# Altium integrated library Silicon Labs Wireless.IntLib: 71 symbols (part 2 of 7)
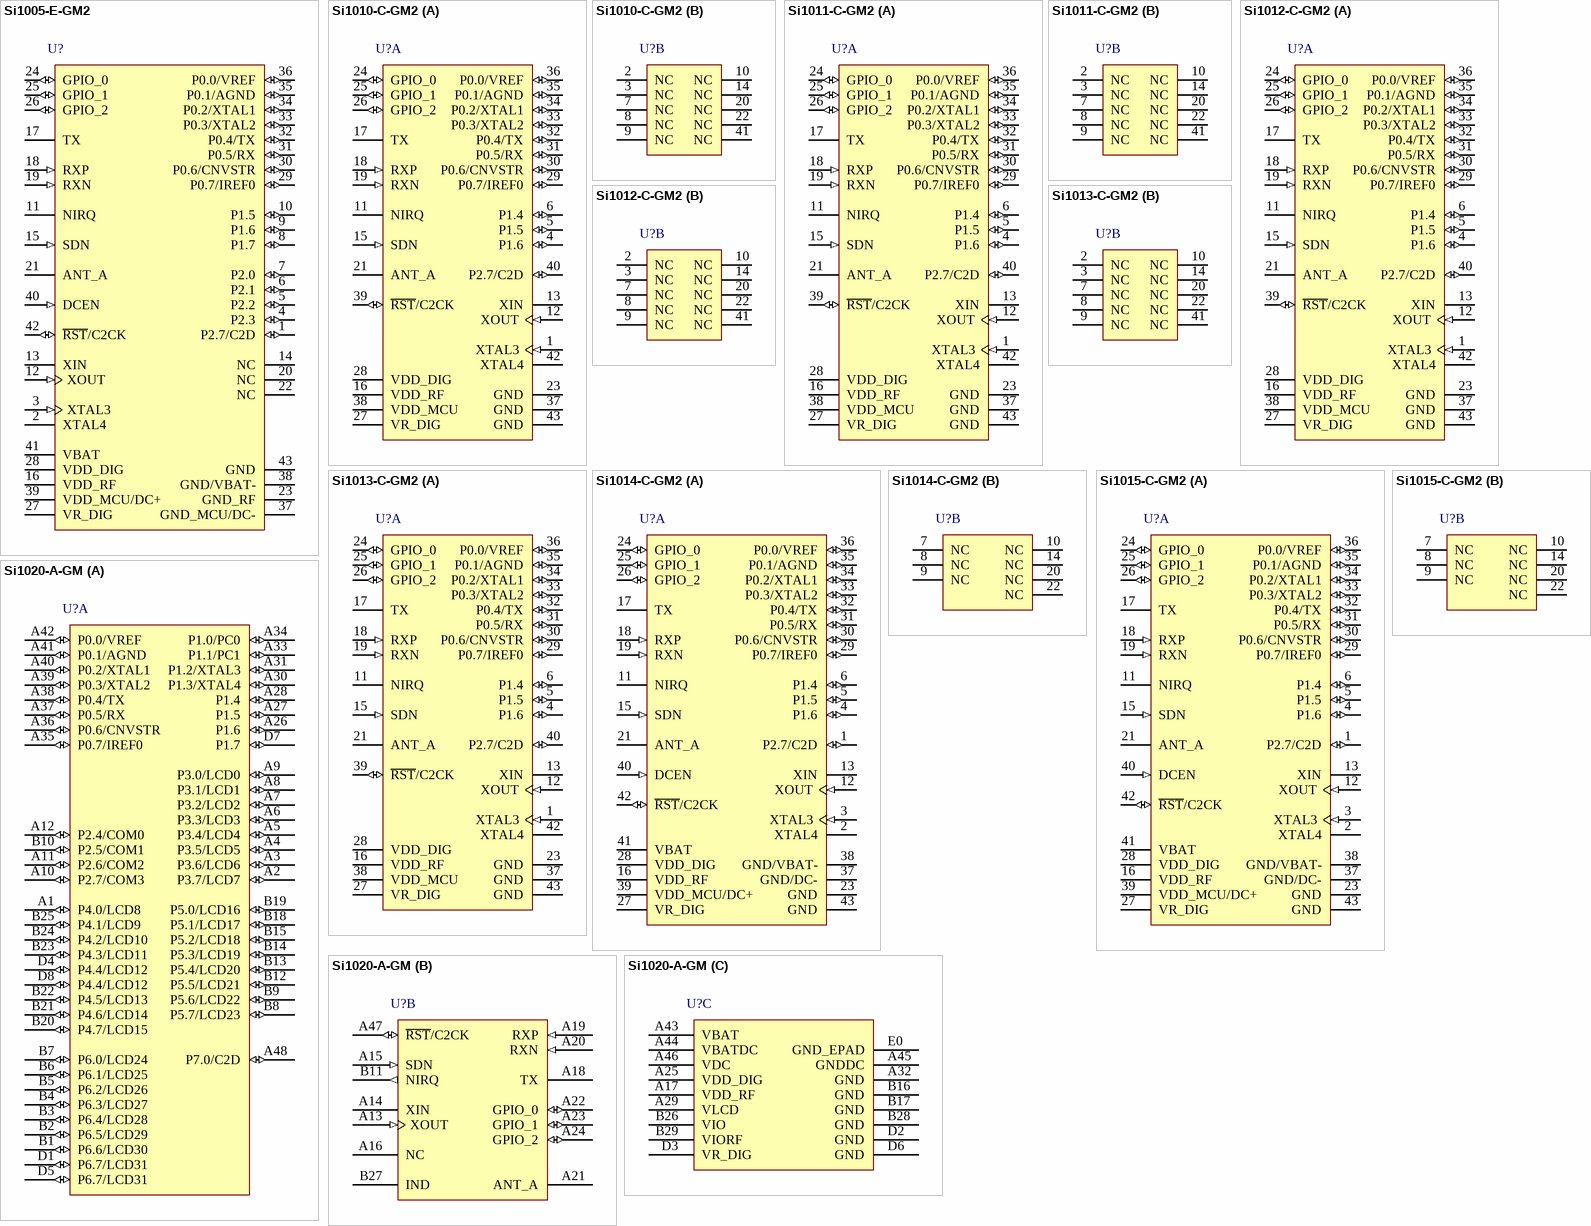
[diagram p7: symbols Si1005-E-GM2 to Si1020-A-GM]

## Si1005-E-GM2
designator U?
Ultra Low Power, 10-Bit ADC MCU with Integrated 240 to 960 MHz EZRadioPRO(R) Transceiver, 32 kB Flash, 4 Timers (16-Bit), -40 to 85 degC, 42-pin LGA, Tube; Manufacturer: Silicon Labs; PartNumber: Si1005-E-GM2; Comparators: 2; Dig I/O Pins: 19; Flash: 32 kB; FSK/GFSK Data Rate: 256 kbps; Internal Osc. Accuracy: +/-2%; OOK Data Rate: 40 kbps; Output Power: -8 to 13 dBm; PCA Channels: 6; RX Current: 18.5 mA; Temp Sensor: TRUE; Timers (16-bit): 4; Sub-Family: Wireless MCUs; DatasheetVersion: Rev. 1.3; PackageReference: LGA-42; PackageDescription: 42-Pin Land Grid Array, Body 5 x 7 mm, Pitch 0.5 mm; Supplier 1: Digi-Key; Supplier Part Number 1: 336-2462-5-ND; Supplier 2: Mouser; Supplier Part Number 2: 634-SI1005-E-GM2; Frequency Range: 240 to 960 MHz; Packing: Tube; Mounting Technology: Surface Mount; Code_IPC: J-STD-020C; ComponentLink1Description: Manufacturer URL; ComponentLink1URL: http://www.silabs.com/; ComponentLink2Description: Datasheet; ComponentLink2URL: http://www.silabs.com/Support Documents/TechnicalDocs/Si1000.pdf; ComponentLink3Description: Package Specification; ComponentLink3URL: http://www.silabs.com/Support%20Documents/TechnicalDocs/Si1000.pdf
footprint SLAB-LGA-42_V (LGA, 42-Leads, Body 7x5mm, Pitch 0.5mm, Thermal Pad 3.15x5.4mm)
pins: 1 P2.7/C2D (io), 2 XTAL4 "SmaRTClock Oscillator Crystal Output. See Section 20 for a complete description.", 3 XTAL3 (in) "SmaRTClock Oscillator Crystal Input. See Section 20 for a complete description.", 4 P2.3 (io) "Port 2.3. See Port I/O section for a complete description.", 5 P2.2 (io) "Port 2.2. See Port I/O section for a complete description.", 6 P2.1 (io) "Port 2.1. See Port I/O section for a complete description.", 7 P2.0 (io) "Port 2.0. See Port I/O section for a complete description.", 8 P1.7 (io) "Port 1.6. See Port I/O section for a complete description.", 9 P1.6 (io) "Port 1.7. See Port I/O section for a complete description.", 10 P1.5 (io) "Port 1.5. See Port I/O section for a complete description.", 11 NIRQ (oc) "EZRadioPRO peripheral interrupt status pin. Will be set low to indicate a pending EZRadioPRO interrupt event. See the EZRadioPRO Control Logic Registers for more details. This pin is an open-drain output with a 220 kohm (See Datasheet)", 12 XOUT (in) "EZRadioPRO peripheral crystal oscillator output. Connect to an external 30 MHz crystal or to an external clock source. If using an external clock source with no crystal, dc coupling with a nominal 0.8 VDC level is (See Datasheet)", 13 XIN "EZRadioPRO peripheral crystal oscillator input. Connect to an external 30 MHz crystal or leave floating if driving the XOUT pin with an external signal source.", 14 NC "No Connect. May be left floating or tied to power or ground.", 15 SDN (in) "EZRadioPRO peripheral shutdown pin. When driven to logic HIGH, the EZRadioPRO peripheral will be completely shut down and the contents of the EZRadioPRO registers will be lost. This pin should be driven to logic LOW during (See Datasheet)", 16 VDD_RF (power) "Power Supply Voltage for the analog portion of the   EZRadioPRO peripheral. Must be 1.8 to 3.6 V.", 17 TX (oc) "EZRadioPRO peripheral transmit RF output pin. The PA output is an open-drain connection so the L-C match must supply (1.8 to 3.6 VDC) to this pin.", 18 RXP (in) "EZRadioPRO peripheral differential RF input pins of the LNA. See application schematic for example matching network.", 19 RXN (in) "EZRadioPRO peripheral differential RF input pins of the LNA. See application schematic for example matching network.", 20 NC "No Connect. May be left floating or tied to power or ground.", 21 ANT_A "EZRadioPRO peripheral TR switch control signal.", 22 NC "No Connect. May be left floating or tied to power or ground.", 23 GND_RF (power) "Required Ground for the digital and analog portions of the EZRadioPRO peripheral.", 24 GPIO_0 (io) "General Purpose I/O controlled by the EZRadioPRO peripheral. May be configured through the EZRadioPRO registers to perform various functions including: Clock Output, FIFO status, POR, Wake-Up Timer, Low Battery Detect, TRSW, (See Datasheet)", 25 GPIO_1 (io) "General Purpose I/O controlled by the EZRadioPRO peripheral. May be configured through the EZRadioPRO registers to perform various functions including: Clock Output, FIFO status, POR, Wake-Up Timer, Low Battery Detect, TRSW, (See Datasheet)", 26 GPIO_2 (io) "General Purpose I/O controlled by the EZRadioPRO peripheral. May be configured through the EZRadioPRO registers to perform various functions including: Clock Output, FIFO status, POR, Wake-Up Timer, Low Battery Detect, TRSW, (See Datasheet)", 27 VR_DIG (power) "Regulated Output Voltage of the digital 1.7 V regulator for the EZRadioPRO peripheral. A 1 uF decoupling capacitor is required.", 28 VDD_DIG (power) "Power Supply Voltage for the digital portion of the   EZRadioPRO peripheral. Must be 1.8 to 3.6 V.", 29 P0.7/IREF0 (io), 30 P0.6/CNVSTR (io), 31 P0.5/RX (io), 32 P0.4/TX (io), 33 P0.3/XTAL2 (io), 34 P0.2/XTAL1 (io), 35 P0.1/AGND (io), 36 P0.0/VREF (io), 37 GND_MCU/DC- (power), 38 GND/VBAT- (power), 39 VDD_MCU/DC+ (power), 40 DCEN (in) "DC-DC Enable Pin. In single-cell battery mode, this pin must be connected to VBAT through a 0.68 uH inductor. In dual-cell battery mode, this pin must be connected directly to ground.", 41 VBAT (power) "Battery Supply Voltage. Must be 0.9 to 1.8 V in single-cell battery mode and 1.8 to 3.6 V in dual-cell battery mode.", 42 ~{RST}/C2CK (io), 43 GND (power)

## Si1010-C-GM2
designator U?
Ultra Low Power, 12 / 10-Bit ADC MCU with Integrated 240 to 960 MHz EZRadioPRO(R) Transceiver, 16 kB Flash, 4 Timers (16-Bit), -40 to 85 degC, 42-pin LGA, Tube; Manufacturer: Silicon Labs; PartNumber: Si1010-C-GM2; Comparators: 2; Dig I/O Pins: 15; Flash: 16 kB; FSK/GFSK Data Rate: 256 kbps; Internal Osc. Accuracy: +/-2%; OOK Data Rate: 40 kbps; Output Power: 1 to 20 dBm; PCA Channels: 6; RX Current: 18.5 mA; Temp Sensor: TRUE; Timers (16-bit): 4; Sub-Family: Wireless MCUs; DatasheetVersion: Rev. 1.2; PackageReference: LGA-42; PackageDescription: 42-Pin Land Grid Array, Body 5 x 7 mm, Pitch 0.5 mm; Supplier 1: Digi-Key; Supplier Part Number 1: 336-2460-5-ND; Supplier 2: Mouser; Supplier Part Number 2: 634-SI1010-C-GM2; Frequency Range: 240 to 960 MHz; Packing: Tube; Mounting Technology: Surface Mount; Code_IPC: J-STD-020C; ComponentLink1Description: Manufacturer URL; ComponentLink1URL: http://www.silabs.com/; ComponentLink2Description: Datasheet; ComponentLink2URL: http://www.silabs.com/Support Documents/TechnicalDocs/Si1010.pdf; ComponentLink3Description: Package Specification; ComponentLink3URL: http://www.silabs.com/Support%20Documents/TechnicalDocs/Si1000.pdf
footprint SLAB-LGA-42_V (LGA, 42-Leads, Body 7x5mm, Pitch 0.5mm, Thermal Pad 3.15x5.4mm)
part A pins: 1 XTAL3 (in) "SmaRTClock Oscillator Crystal Input.", 4 P1.6 (io) "Port 1.6. See Port I/O section for a complete description.", 5 P1.5 (io) "Port 1.5. See Port I/O section for a complete description.", 6 P1.4 (io) "Port 1.4. See Port I/O section for a complete description.", 11 NIRQ (oc) "EZRadioPRO peripheral interrupt status pin. Will be set low to indicate a pending EZRadioPRO interrupt event. See the EZRadioPRO Control Logic Registers for more details. This pin is an open-drain output with a 220 k? (See Datasheet)", 12 XOUT (in) "EZRadioPRO peripheral crystal oscillator output. Connect to an external 30 MHz crystal or to an external clock source. If using an external clock source with no crystal, dc coupling with a nominal 0.8 VDC level is (See Datasheet)", 13 XIN "EZRadioPRO peripheral crystal oscillator input. Connect to an external 30 MHz crystal or leave floating if driving the XOUT pin with an external signal source.", 15 SDN (in) "EZRadioPRO peripheral shutdown pin. When driven to logic HIGH, the EZRadioPRO peripheral will be completely shut down and the contents of the EZRadioPRO registers will be lost. This pin should be driven to logic LOW during (See Datasheet)", 16 VDD_RF (power) "Power Supply Voltage for the analog portion of the EZRadioPRO peripheral. Must be 1.8 to 3.6 V.", 17 TX (oc) "EZRadioPRO peripheral transmit RF output pin. The PA output is an open-drain connection so the L-C match must supply (1.8 to 3.6 VDC) to this pin.", 18 RXP (in) "EZRadioPRO peripheral differential RF input pins of the LNA. See application schematic for example matching network.", 19 RXN (in) "EZRadioPRO peripheral differential RF input pins of the LNA. See application schematic for example matching network.", 21 ANT_A "EZRadioPRO antenna diversity GPIO Ant1 signal direct digital output. Refer to the description of GPIO Ant1 in the Function and Control 2 register. A complete description may be found in “AN440: EZRadioPRO Detaile(See Datasheet)", 23 GND (power) "Required Ground for the digital and analog portions of the EZRadioPRO peripheral.", 24 GPIO_0 (io) "General Purpose I/O controlled by the EZRadioPRO peripheral. May be configured through the EZRadioPRO registers to perform various functions including: Clock Output, FIFO status, POR, Wake-Up Timer, Low Battery Detect, TRSW, (See Datasheet)", 25 GPIO_1 (io) "General Purpose I/O controlled by the EZRadioPRO peripheral. May be configured through the EZRadioPRO registers to perform various functions including: Clock Output, FIFO status, POR, Wake-Up Timer, Low Battery Detect, TRSW, (See Datasheet)", 26 GPIO_2 (io) "General Purpose I/O controlled by the EZRadioPRO peripheral. May be configured through the EZRadioPRO registers to perform various functions including: Clock Output, FIFO status, POR, Wake-Up Timer, Low Battery Detect, TRSW, (See Datasheet)", 27 VR_DIG (power) "Regulated Output Voltage of the digital 1.7 V regulator for the EZRadioPRO peripheral. A 1 uF decoupling capacitor is required.", 28 VDD_DIG (power) "Power Supply Voltage for the digital portion of the EZRadioPRO peripheral. Must be 1.8 to 3.6 V.", 29 P0.7/IREF0 (io), 30 P0.6/CNVSTR (io), 31 P0.5/RX (io), 32 P0.4/TX (io), 33 P0.3/XTAL2 (io), 34 P0.2/XTAL1 (io), 35 P0.1/AGND (io), 36 P0.0/VREF (io), 37 GND (power) "Required Ground for the entire MCU except for the EZRadioPRO peripheral.", 38 VDD_MCU (power) "Power Supply Voltage for the entire MCU except for the EZRadioPRO peripheral. Must be 1.8 to 3.6 V.", 39 ~{RST}/C2CK (io), 40 P2.7/C2D (io), 42 XTAL4 "SmaRTClock Oscillator Crystal Output.", 43 GND (power) "Required Ground for the entire MCU except for the EZRadioPRO peripheral."
part B pins: 2 NC "No Connect. May be left floating or tied to power or ground.", 3 NC "No Connect. May be left floating or tied to power or ground.", 7 NC "No Connect. May be left floating or tied to power or ground.", 8 NC "No Connect. May be left floating or tied to power or ground.", 9 NC "No Connect. May be left floating or tied to power or ground.", 10 NC "No Connect. May be left floating or tied to power or ground.", 14 NC "No Connect. May be left floating or tied to power or ground.", 20 NC "No Connect. May be left floating or tied to power or ground.", 22 NC "No Connect. May be left floating or tied to power or ground.", 41 NC "No Connect. May be left floating or tied to power or ground."

## Si1011-C-GM2
designator U?
Ultra Low Power, 12 / 10-Bit ADC MCU with Integrated 240 to 960 MHz EZRadioPRO(R) Transceiver, 8 kB Flash, 4 Timers (16-Bit), -40 to 85 degC, 42-pin LGA, Tube; Manufacturer: Silicon Labs; PartNumber: Si1011-C-GM2; Comparators: 2; Dig I/O Pins: 15; Flash: 8 kB; FSK/GFSK Data Rate: 256 kbps; Internal Osc. Accuracy: +/-2%; OOK Data Rate: 40 kbps; Output Power: 1 to 20 dBm; PCA Channels: 6; RX Current: 18.5 mA; Temp Sensor: TRUE; Timers (16-bit): 4; Sub-Family: Wireless MCUs; DatasheetVersion: Rev. 1.2; PackageReference: LGA-42; PackageDescription: 42-Pin Land Grid Array, Body 5 x 7 mm, Pitch 0.5 mm; Supplier 1: Digi-Key; Supplier Part Number 1: 336-2459-5-ND; Supplier 2: Mouser; Supplier Part Number 2: 634-SI1011-C-GM2; Frequency Range: 240 to 960 MHz; Packing: Tube; Mounting Technology: Surface Mount; Code_IPC: J-STD-020C; ComponentLink1Description: Manufacturer URL; ComponentLink1URL: http://www.silabs.com/; ComponentLink2Description: Datasheet; ComponentLink2URL: http://www.silabs.com/Support Documents/TechnicalDocs/Si1010.pdf; ComponentLink3Description: Package Specification; ComponentLink3URL: http://www.silabs.com/Support%20Documents/TechnicalDocs/Si1000.pdf
footprint SLAB-LGA-42_V (LGA, 42-Leads, Body 7x5mm, Pitch 0.5mm, Thermal Pad 3.15x5.4mm)
part A pins: 1 XTAL3 (in) "SmaRTClock Oscillator Crystal Input.", 4 P1.6 (io) "Port 1.6. See Port I/O section for a complete description.", 5 P1.5 (io) "Port 1.5. See Port I/O section for a complete description.", 6 P1.4 (io) "Port 1.4. See Port I/O section for a complete description.", 11 NIRQ (oc) "EZRadioPRO peripheral interrupt status pin. Will be set low to indicate a pending EZRadioPRO interrupt event. See the EZRadioPRO Control Logic Registers for more details. This pin is an open-drain output with a 220 k? (See Datasheet)", 12 XOUT (in) "EZRadioPRO peripheral crystal oscillator output. Connect to an external 30 MHz crystal or to an external clock source. If using an external clock source with no crystal, dc coupling with a nominal 0.8 VDC level is (See Datasheet)", 13 XIN "EZRadioPRO peripheral crystal oscillator input. Connect to an external 30 MHz crystal or leave floating if driving the XOUT pin with an external signal source.", 15 SDN (in) "EZRadioPRO peripheral shutdown pin. When driven to logic HIGH, the EZRadioPRO peripheral will be completely shut down and the contents of the EZRadioPRO registers will be lost. This pin should be driven to logic LOW during (See Datasheet)", 16 VDD_RF (power) "Power Supply Voltage for the analog portion of the EZRadioPRO peripheral. Must be 1.8 to 3.6 V.", 17 TX (oc) "EZRadioPRO peripheral transmit RF output pin. The PA output is an open-drain connection so the L-C match must supply (1.8 to 3.6 VDC) to this pin.", 18 RXP (in) "EZRadioPRO peripheral differential RF input pins of the LNA. See application schematic for example matching network.", 19 RXN (in) "EZRadioPRO peripheral differential RF input pins of the LNA. See application schematic for example matching network.", 21 ANT_A "EZRadioPRO antenna diversity GPIO Ant1 signal direct digital output. Refer to the description of GPIO Ant1 in the Function and Control 2 register. A complete description may be found in “AN440: EZRadioPRO Detaile(See Datasheet)", 23 GND (power) "Required Ground for the digital and analog portions of the EZRadioPRO peripheral.", 24 GPIO_0 (io) "General Purpose I/O controlled by the EZRadioPRO peripheral. May be configured through the EZRadioPRO registers to perform various functions including: Clock Output, FIFO status, POR, Wake-Up Timer, Low Battery Detect, TRSW, (See Datasheet)", 25 GPIO_1 (io) "General Purpose I/O controlled by the EZRadioPRO peripheral. May be configured through the EZRadioPRO registers to perform various functions including: Clock Output, FIFO status, POR, Wake-Up Timer, Low Battery Detect, TRSW, (See Datasheet)", 26 GPIO_2 (io) "General Purpose I/O controlled by the EZRadioPRO peripheral. May be configured through the EZRadioPRO registers to perform various functions including: Clock Output, FIFO status, POR, Wake-Up Timer, Low Battery Detect, TRSW, (See Datasheet)", 27 VR_DIG (power) "Regulated Output Voltage of the digital 1.7 V regulator for the EZRadioPRO peripheral. A 1 uF decoupling capacitor is required.", 28 VDD_DIG (power) "Power Supply Voltage for the digital portion of the EZRadioPRO peripheral. Must be 1.8 to 3.6 V.", 29 P0.7/IREF0 (io), 30 P0.6/CNVSTR (io), 31 P0.5/RX (io), 32 P0.4/TX (io), 33 P0.3/XTAL2 (io), 34 P0.2/XTAL1 (io), 35 P0.1/AGND (io), 36 P0.0/VREF (io), 37 GND (power) "Required Ground for the entire MCU except for the EZRadioPRO peripheral.", 38 VDD_MCU (power) "Power Supply Voltage for the entire MCU except for the EZRadioPRO peripheral. Must be 1.8 to 3.6 V.", 39 ~{RST}/C2CK (io), 40 P2.7/C2D (io), 42 XTAL4 "SmaRTClock Oscillator Crystal Output.", 43 GND (power) "Required Ground for the entire MCU except for the EZRadioPRO peripheral."
part B pins: 2 NC "No Connect. May be left floating or tied to power or ground.", 3 NC "No Connect. May be left floating or tied to power or ground.", 7 NC "No Connect. May be left floating or tied to power or ground.", 8 NC "No Connect. May be left floating or tied to power or ground.", 9 NC "No Connect. May be left floating or tied to power or ground.", 10 NC "No Connect. May be left floating or tied to power or ground.", 14 NC "No Connect. May be left floating or tied to power or ground.", 20 NC "No Connect. May be left floating or tied to power or ground.", 22 NC "No Connect. May be left floating or tied to power or ground.", 41 NC "No Connect. May be left floating or tied to power or ground."

## Si1012-C-GM2
designator U?
Ultra Low Power, 12 / 10-Bit ADC MCU with Integrated 240 to 960 MHz EZRadioPRO(R) Transceiver, 16 kB Flash, 4 Timers (16-Bit), -40 to 85 degC, 42-pin LGA, Tube; Manufacturer: Silicon Labs; PartNumber: Si1012-C-GM2; Comparators: 2; Dig I/O Pins: 15; Flash: 16 kB; FSK/GFSK Data Rate: 256 kbps; Internal Osc. Accuracy: +/-2%; OOK Data Rate: 40 kbps; Output Power: -4 to 13 dBm; PCA Channels: 6; RX Current: 18.5 mA; Temp Sensor: TRUE; Timers (16-bit): 4; Sub-Family: Wireless MCUs; DatasheetVersion: Rev. 1.2; PackageReference: LGA-42; PackageDescription: 42-Pin Land Grid Array, Body 5 x 7 mm, Pitch 0.5 mm; Supplier 1: Digi-Key; Supplier Part Number 1: 336-2458-5-ND; Supplier 2: Mouser; Supplier Part Number 2: 634-SI1012-C-GM2; Frequency Range: 240 to 960 MHz; Packing: Tube; Mounting Technology: Surface Mount; Code_IPC: J-STD-020C; ComponentLink1Description: Manufacturer URL; ComponentLink1URL: http://www.silabs.com/; ComponentLink2Description: Datasheet; ComponentLink2URL: http://www.silabs.com/Support Documents/TechnicalDocs/Si1010.pdf; ComponentLink3Description: Package Specification; ComponentLink3URL: http://www.silabs.com/Support%20Documents/TechnicalDocs/Si1000.pdf
footprint SLAB-LGA-42_V (LGA, 42-Leads, Body 7x5mm, Pitch 0.5mm, Thermal Pad 3.15x5.4mm)
part A pins: 1 XTAL3 (in) "SmaRTClock Oscillator Crystal Input.", 4 P1.6 (io) "Port 1.6. See Port I/O section for a complete description.", 5 P1.5 (io) "Port 1.5. See Port I/O section for a complete description.", 6 P1.4 (io) "Port 1.4. See Port I/O section for a complete description.", 11 NIRQ (oc) "EZRadioPRO peripheral interrupt status pin. Will be set low to indicate a pending EZRadioPRO interrupt event. See the EZRadioPRO Control Logic Registers for more details. This pin is an open-drain output with a 220 k? (See Datasheet)", 12 XOUT (in) "EZRadioPRO peripheral crystal oscillator output. Connect to an external 30 MHz crystal or to an external clock source. If using an external clock source with no crystal, dc coupling with a nominal 0.8 VDC level is (See Datasheet)", 13 XIN "EZRadioPRO peripheral crystal oscillator input. Connect to an external 30 MHz crystal or leave floating if driving the XOUT pin with an external signal source.", 15 SDN (in) "EZRadioPRO peripheral shutdown pin. When driven to logic HIGH, the EZRadioPRO peripheral will be completely shut down and the contents of the EZRadioPRO registers will be lost. This pin should be driven to logic LOW during (See Datasheet)", 16 VDD_RF (power) "Power Supply Voltage for the analog portion of the EZRadioPRO peripheral. Must be 1.8 to 3.6 V.", 17 TX (oc) "EZRadioPRO peripheral transmit RF output pin. The PA output is an open-drain connection so the L-C match must supply (1.8 to 3.6 VDC) to this pin.", 18 RXP (in) "EZRadioPRO peripheral differential RF input pins of the LNA. See application schematic for example matching network.", 19 RXN (in) "EZRadioPRO peripheral differential RF input pins of the LNA. See application schematic for example matching network.", 21 ANT_A "EZRadioPRO antenna diversity GPIO Ant1 signal direct digital output. Refer to the description of GPIO Ant1 in the Function and Control 2 register. A complete description may be found in “AN440: EZRadioPRO Detaile(See Datasheet)", 23 GND (power) "Required Ground for the digital and analog portions of the EZRadioPRO peripheral.", 24 GPIO_0 (io) "General Purpose I/O controlled by the EZRadioPRO peripheral. May be configured through the EZRadioPRO registers to perform various functions including: Clock Output, FIFO status, POR, Wake-Up Timer, Low Battery Detect, TRSW, (See Datasheet)", 25 GPIO_1 (io) "General Purpose I/O controlled by the EZRadioPRO peripheral. May be configured through the EZRadioPRO registers to perform various functions including: Clock Output, FIFO status, POR, Wake-Up Timer, Low Battery Detect, TRSW, (See Datasheet)", 26 GPIO_2 (io) "General Purpose I/O controlled by the EZRadioPRO peripheral. May be configured through the EZRadioPRO registers to perform various functions including: Clock Output, FIFO status, POR, Wake-Up Timer, Low Battery Detect, TRSW, (See Datasheet)", 27 VR_DIG (power) "Regulated Output Voltage of the digital 1.7 V regulator for the EZRadioPRO peripheral. A 1 uF decoupling capacitor is required.", 28 VDD_DIG (power) "Power Supply Voltage for the digital portion of the EZRadioPRO peripheral. Must be 1.8 to 3.6 V.", 29 P0.7/IREF0 (io), 30 P0.6/CNVSTR (io), 31 P0.5/RX (io), 32 P0.4/TX (io), 33 P0.3/XTAL2 (io), 34 P0.2/XTAL1 (io), 35 P0.1/AGND (io), 36 P0.0/VREF (io), 37 GND (power) "Required Ground for the entire MCU except for the EZRadioPRO peripheral.", 38 VDD_MCU (power) "Power Supply Voltage for the entire MCU except for the EZRadioPRO peripheral. Must be 1.8 to 3.6 V.", 39 ~{RST}/C2CK (io), 40 P2.7/C2D (io), 42 XTAL4 "SmaRTClock Oscillator Crystal Output.", 43 GND (power) "Required Ground for the entire MCU except for the EZRadioPRO peripheral."
part B pins: 2 NC "No Connect. May be left floating or tied to power or ground.", 3 NC "No Connect. May be left floating or tied to power or ground.", 7 NC "No Connect. May be left floating or tied to power or ground.", 8 NC "No Connect. May be left floating or tied to power or ground.", 9 NC "No Connect. May be left floating or tied to power or ground.", 10 NC "No Connect. May be left floating or tied to power or ground.", 14 NC "No Connect. May be left floating or tied to power or ground.", 20 NC "No Connect. May be left floating or tied to power or ground.", 22 NC "No Connect. May be left floating or tied to power or ground.", 41 NC "No Connect. May be left floating or tied to power or ground."

## Si1013-C-GM2
designator U?
Ultra Low Power, 12 / 10-Bit ADC MCU with Integrated 240 to 960 MHz EZRadioPRO(R) Transceiver, 8 kB Flash, 4 Timers (16-Bit), -40 to 85 degC, 42-pin LGA, Tube; Manufacturer: Silicon Labs; PartNumber: Si1013-C-GM2; Comparators: 2; Dig I/O Pins: 15; Flash: 8 kB; FSK/GFSK Data Rate: 256 kbps; Internal Osc. Accuracy: +/-2%; OOK Data Rate: 40 kbps; Output Power: -4 to 13 dBm; PCA Channels: 6; RX Current: 18.5 mA; Temp Sensor: TRUE; Timers (16-bit): 4; Sub-Family: Wireless MCUs; DatasheetVersion: Rev. 1.2; PackageReference: LGA-42; PackageDescription: 42-Pin Land Grid Array, Body 5 x 7 mm, Pitch 0.5 mm; Supplier 1: Digi-Key; Supplier Part Number 1: 336-2457-5-ND; Supplier 2: Mouser; Supplier Part Number 2: 634-SI1013-C-GM2; Frequency Range: 240 to 960 MHz; Packing: Tube; Mounting Technology: Surface Mount; Code_IPC: J-STD-020C; ComponentLink1Description: Manufacturer URL; ComponentLink1URL: http://www.silabs.com/; ComponentLink2Description: Datasheet; ComponentLink2URL: http://www.silabs.com/Support Documents/TechnicalDocs/Si1010.pdf; ComponentLink3Description: Package Specification; ComponentLink3URL: http://www.silabs.com/Support%20Documents/TechnicalDocs/Si1000.pdf
footprint SLAB-LGA-42_V (LGA, 42-Leads, Body 7x5mm, Pitch 0.5mm, Thermal Pad 3.15x5.4mm)
part A pins: 1 XTAL3 (in) "SmaRTClock Oscillator Crystal Input.", 4 P1.6 (io) "Port 1.6. See Port I/O section for a complete description.", 5 P1.5 (io) "Port 1.5. See Port I/O section for a complete description.", 6 P1.4 (io) "Port 1.4. See Port I/O section for a complete description.", 11 NIRQ (oc) "EZRadioPRO peripheral interrupt status pin. Will be set low to indicate a pending EZRadioPRO interrupt event. See the EZRadioPRO Control Logic Registers for more details. This pin is an open-drain output with a 220 k? (See Datasheet)", 12 XOUT (in) "EZRadioPRO peripheral crystal oscillator output. Connect to an external 30 MHz crystal or to an external clock source. If using an external clock source with no crystal, dc coupling with a nominal 0.8 VDC level is (See Datasheet)", 13 XIN "EZRadioPRO peripheral crystal oscillator input. Connect to an external 30 MHz crystal or leave floating if driving the XOUT pin with an external signal source.", 15 SDN (in) "EZRadioPRO peripheral shutdown pin. When driven to logic HIGH, the EZRadioPRO peripheral will be completely shut down and the contents of the EZRadioPRO registers will be lost. This pin should be driven to logic LOW during (See Datasheet)", 16 VDD_RF (power) "Power Supply Voltage for the analog portion of the EZRadioPRO peripheral. Must be 1.8 to 3.6 V.", 17 TX (oc) "EZRadioPRO peripheral transmit RF output pin. The PA output is an open-drain connection so the L-C match must supply (1.8 to 3.6 VDC) to this pin.", 18 RXP (in) "EZRadioPRO peripheral differential RF input pins of the LNA. See application schematic for example matching network.", 19 RXN (in) "EZRadioPRO peripheral differential RF input pins of the LNA. See application schematic for example matching network.", 21 ANT_A "EZRadioPRO antenna diversity GPIO Ant1 signal direct digital output. Refer to the description of GPIO Ant1 in the Function and Control 2 register. A complete description may be found in “AN440: EZRadioPRO Detaile(See Datasheet)", 23 GND (power) "Required Ground for the digital and analog portions of the EZRadioPRO peripheral.", 24 GPIO_0 (io) "General Purpose I/O controlled by the EZRadioPRO peripheral. May be configured through the EZRadioPRO registers to perform various functions including: Clock Output, FIFO status, POR, Wake-Up Timer, Low Battery Detect, TRSW, (See Datasheet)", 25 GPIO_1 (io) "General Purpose I/O controlled by the EZRadioPRO peripheral. May be configured through the EZRadioPRO registers to perform various functions including: Clock Output, FIFO status, POR, Wake-Up Timer, Low Battery Detect, TRSW, (See Datasheet)", 26 GPIO_2 (io) "General Purpose I/O controlled by the EZRadioPRO peripheral. May be configured through the EZRadioPRO registers to perform various functions including: Clock Output, FIFO status, POR, Wake-Up Timer, Low Battery Detect, TRSW, (See Datasheet)", 27 VR_DIG (power) "Regulated Output Voltage of the digital 1.7 V regulator for the EZRadioPRO peripheral. A 1 uF decoupling capacitor is required.", 28 VDD_DIG (power) "Power Supply Voltage for the digital portion of the EZRadioPRO peripheral. Must be 1.8 to 3.6 V.", 29 P0.7/IREF0 (io), 30 P0.6/CNVSTR (io), 31 P0.5/RX (io), 32 P0.4/TX (io), 33 P0.3/XTAL2 (io), 34 P0.2/XTAL1 (io), 35 P0.1/AGND (io), 36 P0.0/VREF (io), 37 GND (power) "Required Ground for the entire MCU except for the EZRadioPRO peripheral.", 38 VDD_MCU (power) "Power Supply Voltage for the entire MCU except for the EZRadioPRO peripheral. Must be 1.8 to 3.6 V.", 39 ~{RST}/C2CK (io), 40 P2.7/C2D (io), 42 XTAL4 "SmaRTClock Oscillator Crystal Output.", 43 GND (power) "Required Ground for the entire MCU except for the EZRadioPRO peripheral."
part B pins: 2 NC "No Connect. May be left floating or tied to power or ground.", 3 NC "No Connect. May be left floating or tied to power or ground.", 7 NC "No Connect. May be left floating or tied to power or ground.", 8 NC "No Connect. May be left floating or tied to power or ground.", 9 NC "No Connect. May be left floating or tied to power or ground.", 10 NC "No Connect. May be left floating or tied to power or ground.", 14 NC "No Connect. May be left floating or tied to power or ground.", 20 NC "No Connect. May be left floating or tied to power or ground.", 22 NC "No Connect. May be left floating or tied to power or ground.", 41 NC "No Connect. May be left floating or tied to power or ground."

## Si1014-C-GM2
designator U?
Ultra Low Power, 12 / 10-Bit ADC MCU with Integrated 240 to 960 MHz EZRadioPRO(R) Transceiver, 16 kB Flash, 4 Timers (16-Bit), -40 to 85 degC, 42-pin LGA, Tube; Manufacturer: Silicon Labs; PartNumber: Si1014-C-GM2; Comparators: 2; Dig I/O Pins: 15; Flash: 16 kB; FSK/GFSK Data Rate: 256 kbps; Internal Osc. Accuracy: +/-2%; OOK Data Rate: 40 kbps; Output Power: -4 to 13 dBm; PCA Channels: 6; RX Current: 18.5 mA; Temp Sensor: TRUE; Timers (16-bit): 4; Sub-Family: Wireless MCUs; DatasheetVersion: Rev. 1.2; PackageReference: LGA-42; PackageDescription: 42-Pin Land Grid Array, Body 5 x 7 mm, Pitch 0.5 mm; Supplier 1: Digi-Key; Supplier Part Number 1: 336-2456-5-ND; Supplier 2: Mouser; Supplier Part Number 2: 634-SI1014-C-GM2; Frequency Range: 240 to 960 MHz; Packing: Tube; Mounting Technology: Surface Mount; Code_IPC: J-STD-020C; ComponentLink1Description: Manufacturer URL; ComponentLink1URL: http://www.silabs.com/; ComponentLink2Description: Datasheet; ComponentLink2URL: http://www.silabs.com/Support Documents/TechnicalDocs/Si1010.pdf; ComponentLink3Description: Package Specification; ComponentLink3URL: http://www.silabs.com/Support%20Documents/TechnicalDocs/Si1000.pdf
footprint SLAB-LGA-42_V (LGA, 42-Leads, Body 7x5mm, Pitch 0.5mm, Thermal Pad 3.15x5.4mm)
part A pins: 1 P2.7/C2D (io), 2 XTAL4 "SmaRTClock Oscillator Crystal Output. See Section 20 for a complete description.", 3 XTAL3 (in) "SmaRTClock Oscillator Crystal Input. See Section 20 for a complete description.", 4 P1.6 (io) "Port 1.6. See Port I/O section for a complete description.", 5 P1.5 (io) "Port 1.5. See Port I/O section for a complete description.", 6 P1.4 (io) "Port 1.4. See Port I/O section for a complete description.", 11 NIRQ (oc) "EZRadioPRO peripheral interrupt status pin. Will be set low to indicate a pending EZRadioPRO interrupt event. See the EZRadioPRO Control Logic Registers for more details. This pin is an open-drain output with a 220 kohm (See Datasheet)", 12 XOUT (in) "EZRadioPRO peripheral crystal oscillator output. Connect to an external 30 MHz crystal or to an external clock source. If using an external clock source with no crystal, dc coupling with a nominal 0.8 VDC level is (See Datasheet)", 13 XIN "EZRadioPRO peripheral crystal oscillator input. Connect to an external 30 MHz crystal or leave floating if driving the XOUT pin with an external signal source.", 15 SDN (in) "EZRadioPRO peripheral shutdown pin. When driven to logic HIGH, the EZRadioPRO peripheral will be completely shut down and the contents of the EZRadioPRO registers will be lost. This pin should be driven to logic LOW during (See Datasheet)", 16 VDD_RF (power) "Power Supply Voltage for the analog portion of the EZRadioPRO peripheral. Must be 1.8 to 3.6 V.", 17 TX (oc) "EZRadioPRO peripheral transmit RF output pin. The PA output is an open-drain connection so the L-C match must supply (1.8 to 3.6 VDC) to this pin.", 18 RXP (in) "EZRadioPRO peripheral differential RF input pins of the LNA. See application schematic for example matching network.", 19 RXN (in) "EZRadioPRO peripheral differential RF input pins of the LNA. See application schematic for example matching network.", 21 ANT_A "EZRadioPRO antenna diversity GPIO Ant1 signal direct digital output. Refer to the description of GPIO Ant1 in the Function and Control 2 register. A complete description may be found in “AN440: EZRadioPRO Detaile(See Datasheet)", 23 GND (power) "Required Ground for the digital and analog portions of the EZRadioPRO peripheral.", 24 GPIO_0 (io) "General Purpose I/O controlled by the EZRadioPRO peripheral. May be configured through the EZRadioPRO registers to perform various functions including: Clock Output, FIFO status, POR, Wake-Up Timer, Low Battery Detect, TRSW, (See Datasheet)", 25 GPIO_1 (io) "General Purpose I/O controlled by the EZRadioPRO peripheral. May be configured through the EZRadioPRO registers to perform various functions including: Clock Output, FIFO status, POR, Wake-Up Timer, Low Battery Detect, TRSW, (See Datasheet)", 26 GPIO_2 (io) "General Purpose I/O controlled by the EZRadioPRO peripheral. May be configured through the EZRadioPRO registers to perform various functions including: Clock Output, FIFO status, POR, Wake-Up Timer, Low Battery Detect, TRSW, (See Datasheet)", 27 VR_DIG (power) "Regulated Output Voltage of the digital 1.7 V regulator for the EZRadioPRO peripheral. A 1 uF decoupling capacitor is required.", 28 VDD_DIG (power) "Power Supply Voltage for the digital portion of the EZRadioPRO peripheral. Must be 1.8 to 3.6 V.", 29 P0.7/IREF0 (io), 30 P0.6/CNVSTR (io), 31 P0.5/RX (io), 32 P0.4/TX (io), 33 P0.3/XTAL2 (io), 34 P0.2/XTAL1 (io), 35 P0.1/AGND (io), 36 P0.0/VREF (io), 37 GND/DC- (power), 38 GND/VBAT- (power), 39 VDD_MCU/DC+ (power), 40 DCEN (in) "DC-DC Enable Pin. In single-cell battery mode, this pin must be connected to VBAT through a 0.68 uH inductor. In dual-cell battery mode, this pin must be connected directly to ground.", 41 VBAT (power) "Battery Supply Voltage. Must be 0.9 to 1.8 V in single-cell battery mode and 1.8 to 3.6 V in dual-cell battery mode.", 42 ~{RST}/C2CK (io), 43 GND (power)
part B pins: 7 NC "No Connect. May be left floating or tied to power or ground.", 8 NC "No Connect. May be left floating or tied to power or ground.", 9 NC "No Connect. May be left floating or tied to power or ground.", 10 NC "No Connect. May be left floating or tied to power or ground.", 14 NC "No Connect. May be left floating or tied to power or ground.", 20 NC "No Connect. May be left floating or tied to power or ground.", 22 NC "No Connect. May be left floating or tied to power or ground."

## Si1015-C-GM2
designator U?
Ultra Low Power, 12 / 10-Bit ADC MCU with Integrated 240 to 960 MHz EZRadioPRO(R) Transceiver, 8 kB Flash, 4 Timers (16-Bit), -40 to 85 degC, 42-pin LGA, Tube; Manufacturer: Silicon Labs; PartNumber: Si1015-C-GM2; Comparators: 2; Dig I/O Pins: 15; Flash: 8 kB; FSK/GFSK Data Rate: 256 kbps; Internal Osc. Accuracy: +/-2%; OOK Data Rate: 40 kbps; Output Power: -4 to 13 dBm; PCA Channels: 6; RX Current: 18.5 mA; Temp Sensor: TRUE; Timers (16-bit): 4; Sub-Family: Wireless MCUs; DatasheetVersion: Rev. 1.2; PackageReference: LGA-42; PackageDescription: 42-Pin Land Grid Array, Body 5 x 7 mm, Pitch 0.5 mm; Supplier 1: Digi-Key; Supplier Part Number 1: 336-2455-5-ND; Supplier 2: Mouser; Supplier Part Number 2: 634-SI1015-C-GM2; Frequency Range: 240 to 960 MHz; Packing: Tube; Mounting Technology: Surface Mount; Code_IPC: J-STD-020C; ComponentLink1Description: Manufacturer URL; ComponentLink1URL: http://www.silabs.com/; ComponentLink2Description: Datasheet; ComponentLink2URL: http://www.silabs.com/Support Documents/TechnicalDocs/Si1010.pdf; ComponentLink3Description: Package Specification; ComponentLink3URL: http://www.silabs.com/Support%20Documents/TechnicalDocs/Si1000.pdf
footprint SLAB-LGA-42_V (LGA, 42-Leads, Body 7x5mm, Pitch 0.5mm, Thermal Pad 3.15x5.4mm)
part A pins: 1 P2.7/C2D (io), 2 XTAL4 "SmaRTClock Oscillator Crystal Output. See Section 20 for a complete description.", 3 XTAL3 (in) "SmaRTClock Oscillator Crystal Input. See Section 20 for a complete description.", 4 P1.6 (io) "Port 1.6. See Port I/O section for a complete description.", 5 P1.5 (io) "Port 1.5. See Port I/O section for a complete description.", 6 P1.4 (io) "Port 1.4. See Port I/O section for a complete description.", 11 NIRQ (oc) "EZRadioPRO peripheral interrupt status pin. Will be set low to indicate a pending EZRadioPRO interrupt event. See the EZRadioPRO Control Logic Registers for more details. This pin is an open-drain output with a 220 kohm (See Datasheet)", 12 XOUT (in) "EZRadioPRO peripheral crystal oscillator output. Connect to an external 30 MHz crystal or to an external clock source. If using an external clock source with no crystal, dc coupling with a nominal 0.8 VDC level is (See Datasheet)", 13 XIN "EZRadioPRO peripheral crystal oscillator input. Connect to an external 30 MHz crystal or leave floating if driving the XOUT pin with an external signal source.", 15 SDN (in) "EZRadioPRO peripheral shutdown pin. When driven to logic HIGH, the EZRadioPRO peripheral will be completely shut down and the contents of the EZRadioPRO registers will be lost. This pin should be driven to logic LOW during (See Datasheet)", 16 VDD_RF (power) "Power Supply Voltage for the analog portion of the EZRadioPRO peripheral. Must be 1.8 to 3.6 V.", 17 TX (oc) "EZRadioPRO peripheral transmit RF output pin. The PA output is an open-drain connection so the L-C match must supply (1.8 to 3.6 VDC) to this pin.", 18 RXP (in) "EZRadioPRO peripheral differential RF input pins of the LNA. See application schematic for example matching network.", 19 RXN (in) "EZRadioPRO peripheral differential RF input pins of the LNA. See application schematic for example matching network.", 21 ANT_A "EZRadioPRO antenna diversity GPIO Ant1 signal direct digital output. Refer to the description of GPIO Ant1 in the Function and Control 2 register. A complete description may be found in “AN440: EZRadioPRO Detaile(See Datasheet)", 23 GND (power) "Required Ground for the digital and analog portions of the EZRadioPRO peripheral.", 24 GPIO_0 (io) "General Purpose I/O controlled by the EZRadioPRO peripheral. May be configured through the EZRadioPRO registers to perform various functions including: Clock Output, FIFO status, POR, Wake-Up Timer, Low Battery Detect, TRSW, (See Datasheet)", 25 GPIO_1 (io) "General Purpose I/O controlled by the EZRadioPRO peripheral. May be configured through the EZRadioPRO registers to perform various functions including: Clock Output, FIFO status, POR, Wake-Up Timer, Low Battery Detect, TRSW, (See Datasheet)", 26 GPIO_2 (io) "General Purpose I/O controlled by the EZRadioPRO peripheral. May be configured through the EZRadioPRO registers to perform various functions including: Clock Output, FIFO status, POR, Wake-Up Timer, Low Battery Detect, TRSW, (See Datasheet)", 27 VR_DIG (power) "Regulated Output Voltage of the digital 1.7 V regulator for the EZRadioPRO peripheral. A 1 uF decoupling capacitor is required.", 28 VDD_DIG (power) "Power Supply Voltage for the digital portion of the EZRadioPRO peripheral. Must be 1.8 to 3.6 V.", 29 P0.7/IREF0 (io), 30 P0.6/CNVSTR (io), 31 P0.5/RX (io), 32 P0.4/TX (io), 33 P0.3/XTAL2 (io), 34 P0.2/XTAL1 (io), 35 P0.1/AGND (io), 36 P0.0/VREF (io), 37 GND/DC- (power), 38 GND/VBAT- (power), 39 VDD_MCU/DC+ (power), 40 DCEN (in) "DC-DC Enable Pin. In single-cell battery mode, this pin must be connected to VBAT through a 0.68 uH inductor. In dual-cell battery mode, this pin must be connected directly to ground.", 41 VBAT (power) "Battery Supply Voltage. Must be 0.9 to 1.8 V in single-cell battery mode and 1.8 to 3.6 V in dual-cell battery mode.", 42 ~{RST}/C2CK (io), 43 GND (power)
part B pins: 7 NC "No Connect. May be left floating or tied to power or ground.", 8 NC "No Connect. May be left floating or tied to power or ground.", 9 NC "No Connect. May be left floating or tied to power or ground.", 10 NC "No Connect. May be left floating or tied to power or ground.", 14 NC "No Connect. May be left floating or tied to power or ground.", 20 NC "No Connect. May be left floating or tied to power or ground.", 22 NC "No Connect. May be left floating or tied to power or ground."

## Si1020-A-GM
designator U?
Ultra Low Power, LCD MCU Family, 128 kB Flash, 4 Timers (16-Bit), -40 to 85 degC, 85-pin LGA, Tray; Manufacturer: Silicon Labs; PartNumber: Si1020-A-GM; Comparators: 2; Dig I/O Pins: 53; Flash: 128 kB; Frequency Range: 240 to 960 MHz; FSK/GFSK Data Rate: 256 kbps; Internal Osc. Accuracy: +/-2%; OOK Data Rate: 40 kbps; Output Power: 1 to 20 dBm; PCA Channels: 6; Temp Sensor: TRUE; Timers (16-bit): 4; Sub-Family: Wireless MCUs; DatasheetVersion: Rev. 0.3; PackageReference: LGA-85; PackageDescription: 85-Pin Land Grid Array, Body 6 x 8 mm, Pitch 0.5 mm; Supplier 1: Digi-Key; Supplier Part Number 1: 336-2173-ND; Supplier 2: Mouser; Supplier Part Number 2: 634-SI1020-A-GM; Packing: Tray; Mounting Technology: Surface Mount; Code_IPC: J-STD-020; ComponentLink1Description: Manufacturer URL; ComponentLink1URL: http://www.silabs.com/; ComponentLink2Description: Datasheet; ComponentLink2URL: http://www.silabs.com/Support Documents/TechnicalDocs/Si102x-3x.pdf; ComponentLink3Description: Package Specification; ComponentLink3URL: http://www.silabs.com/Support%20Documents/TechnicalDocs/Si102x-3x.pdf
footprint SLAB-LGA-85_V (LGA, 85-Leads, Body 8x6mm, Thermal Pad 2.4x5.6mm)
part A pins: A1 P4.0/LCD8 (io), A2 P3.7/LCD7 (io), A3 P3.6/LCD6 (io), A4 P3.5/LCD5 (io), A5 P3.4/LCD4 (io), A6 P3.3/LCD3 (io), A7 P3.2/LCD2 (io), A8 P3.1/LCD1 (io), A9 P3.0/LCD0 (io), A10 P2.7/COM3 (io), A11 P2.6/COM2 (io), A12 P2.4/COM0 (io), A26 P1.6 (io) "Port 1.6. See Port I/O Section for a complete description.", A27 P1.5 (io) "Port 1.5. See Port I/O Section for a complete description.", A28 P1.4 (io) "Port 1.4. See Port I/O Section for a complete description.", A30 P1.3/XTAL4 (io), A31 P1.2/XTAL3 (io), A33 P1.1/PC1 (io), A34 P1.0/PC0 (io), A35 P0.7/IREF0 (io), A36 P0.6/CNVSTR (io), A37 P0.5/RX (io), A38 P0.4/TX (io), A39 P0.3/XTAL2 (io), A40 P0.2/XTAL1 (io), A41 P0.1/AGND (io), A42 P0.0/VREF (io), A48 P7.0/C2D (io), B1 P6.6/LCD30 (io), B2 P6.5/LCD29 (io), B3 P6.4/LCD28 (io), B4 P6.3/LCD27 (io), B5 P6.2/LCD26 (io), B6 P6.1/LCD25 (io), B7 P6.0/LCD24 (io), B8 P5.7/LCD23 (io), B9 P5.6/LCD22 (io), B10 P2.5/COM1 (io), B12 P5.5/LCD21 (io), B13 P5.4/LCD20 (io), B14 P5.3/LCD19 (io), B15 P5.2/LCD18 (io), B18 P5.1/LCD17 (io), B19 P5.0/LCD16 (io), B20 P4.7/LCD15 (io), B21 P4.6/LCD14 (io), B22 P4.5/LCD13 (io), B23 P4.3/LCD11 (io), B24 P4.2/LCD10 (io), B25 P4.1/LCD9 (io), D1 P6.7/LCD31 (io), D4 P4.4/LCD12 (io), D5 P6.7/LCD31 (io), D7 P1.7 (io) "Port 1.7. See Port I/O Section for a complete description.", D8 P4.4/LCD12 (io)
part B pins: A13 XOUT (in) "Crystal Oscillator Output/External Reference Input. Connect to an external 30 MHz crystal or to an external source. If using an external source with no crystal, then DC coupling with a nominal 0.8 VDC level is recommended (See Datasheet)", A14 XIN "Crystal Oscillator Input. Connect to an external 30 MHz crystal or leave floating when driving with an external source on XOUT.", A15 SDN (in) "Shutdown input pin. SDN should be low in all modes except Shutdown mode. When SDN is high, the radio will be completely shut down, and the contents of the registers will be lost.", A16 NC "No Connect. Not connected internally to any circuitry.", A18 TX (oc) "Transmit output pin. The PA output is an open-drain connection so the L-C match must supply VDD (+3.3 VDC nominal) to this pin.", A19 RXP (in) "Differential RF input pins of the LNA. See application schematic for example matching network.", A20 RXN (in) "Differential RF input pins of the LNA. See application schematic for example matching network.", A21 ANT_A "Extra antenna or TR switch control to be used if more GPIO are required. Pin is a hardwired version of GPIO setting 11000, Antenna 2 and can be manually controlled by the antdiv[2:0] bits in register 08h. See register (See Datasheet)", A22 GPIO_0 (io) "General Purpose Digital I/O that may be configured through the registers to perform various functions including: Microcontroller Clock Output, FIFO status, POR, Wake-Up timer, Low Battery Detect, T/R switch, AntDiversity (See Datasheet)", A23 GPIO_1 (io) "General Purpose Digital I/O that may be configured through the registers to perform various functions including: Microcontroller Clock Output, FIFO status, POR, Wake-Up timer, Low Battery Detect, T/R switch, AntDiversity (See Datasheet)", A24 GPIO_2 (io) "General Purpose Digital I/O that may be configured through the registers to perform various functions including: Microcontroller Clock Output, FIFO status, POR, Wake-Up timer, Low Battery Detect, T/R switch, AntDiversity (See Datasheet)", A47 ~{RST}/C2CK (io), B11 NIRQ (out) "General Microcontroller Interrupt Status output. When the EZRadioPRO transceiver exhibits anyone of the Interrupt Events, the nIRQ pin will be set low. Please see the Control Logic registers section for more information on (See Datasheet)", B27 IND "DC-DC Inductor Pin. This pin requires a 560 nH inductor to VDC if the DC-DC converter is used."
part C pins: A17 VDD_RF (power) "+1.8 to +3.6 V supply voltage input to all analog +1.7 V regulators. The recommended VDD supply voltage is +3.3 V", A25 VDD_DIG (power) "+1.8 to +3.6 V supply voltage input to the Digital +1.7 V regulator. The recommended VDD supply voltage is +3.3 V.", A29 VLCD (power) "LCD Power Supply. This pin requires a 10 uF capacitor to stabilize the charge pump.", A32 GND (power) "Required Ground.", A43 VBAT (power) "Battery Supply Voltage. Must be 1.8 to 3.8 V.", A44 VBATDC (power) "DC0 Input Voltage. Must be 1.8 to 3.8 V.", A45 GNDDC (power) "DC-DC converter return current path. This pin is typically tied to the ground plane.", A46 VDC (power) "Alternate Power Supply Voltage. Must be 1.8 to 3.6 V. This supply voltage must always be <= VBAT. Software may select this supply voltage to power the digital logic. Positive output of the DC-DC converter. A 1 uF to 10 uF (See Datasheet)", B16 GND (power) "Required Ground.", B17 GND (power) "Required Ground.", B26 VIO (power) "I/O Power Supply for P0.0-P1.4 and P2.4-P7.0 pins. This supply voltage must always be <= VBAT.", B28 GND (power) "Required Ground.", B29 VIORF (power) "I/O Power Supply for P1.5-P2.3 pins. This supply voltage must always be <= VBAT", D2 GND (power) "Required Ground.", D3 VR_DIG (power) "Regulated Output Voltage of the Digital 1.7 V regulator. A 1 uF decoupling capacitor is required.", D6 GND (power) "Required Ground.", E0 GND_EPAD (power)

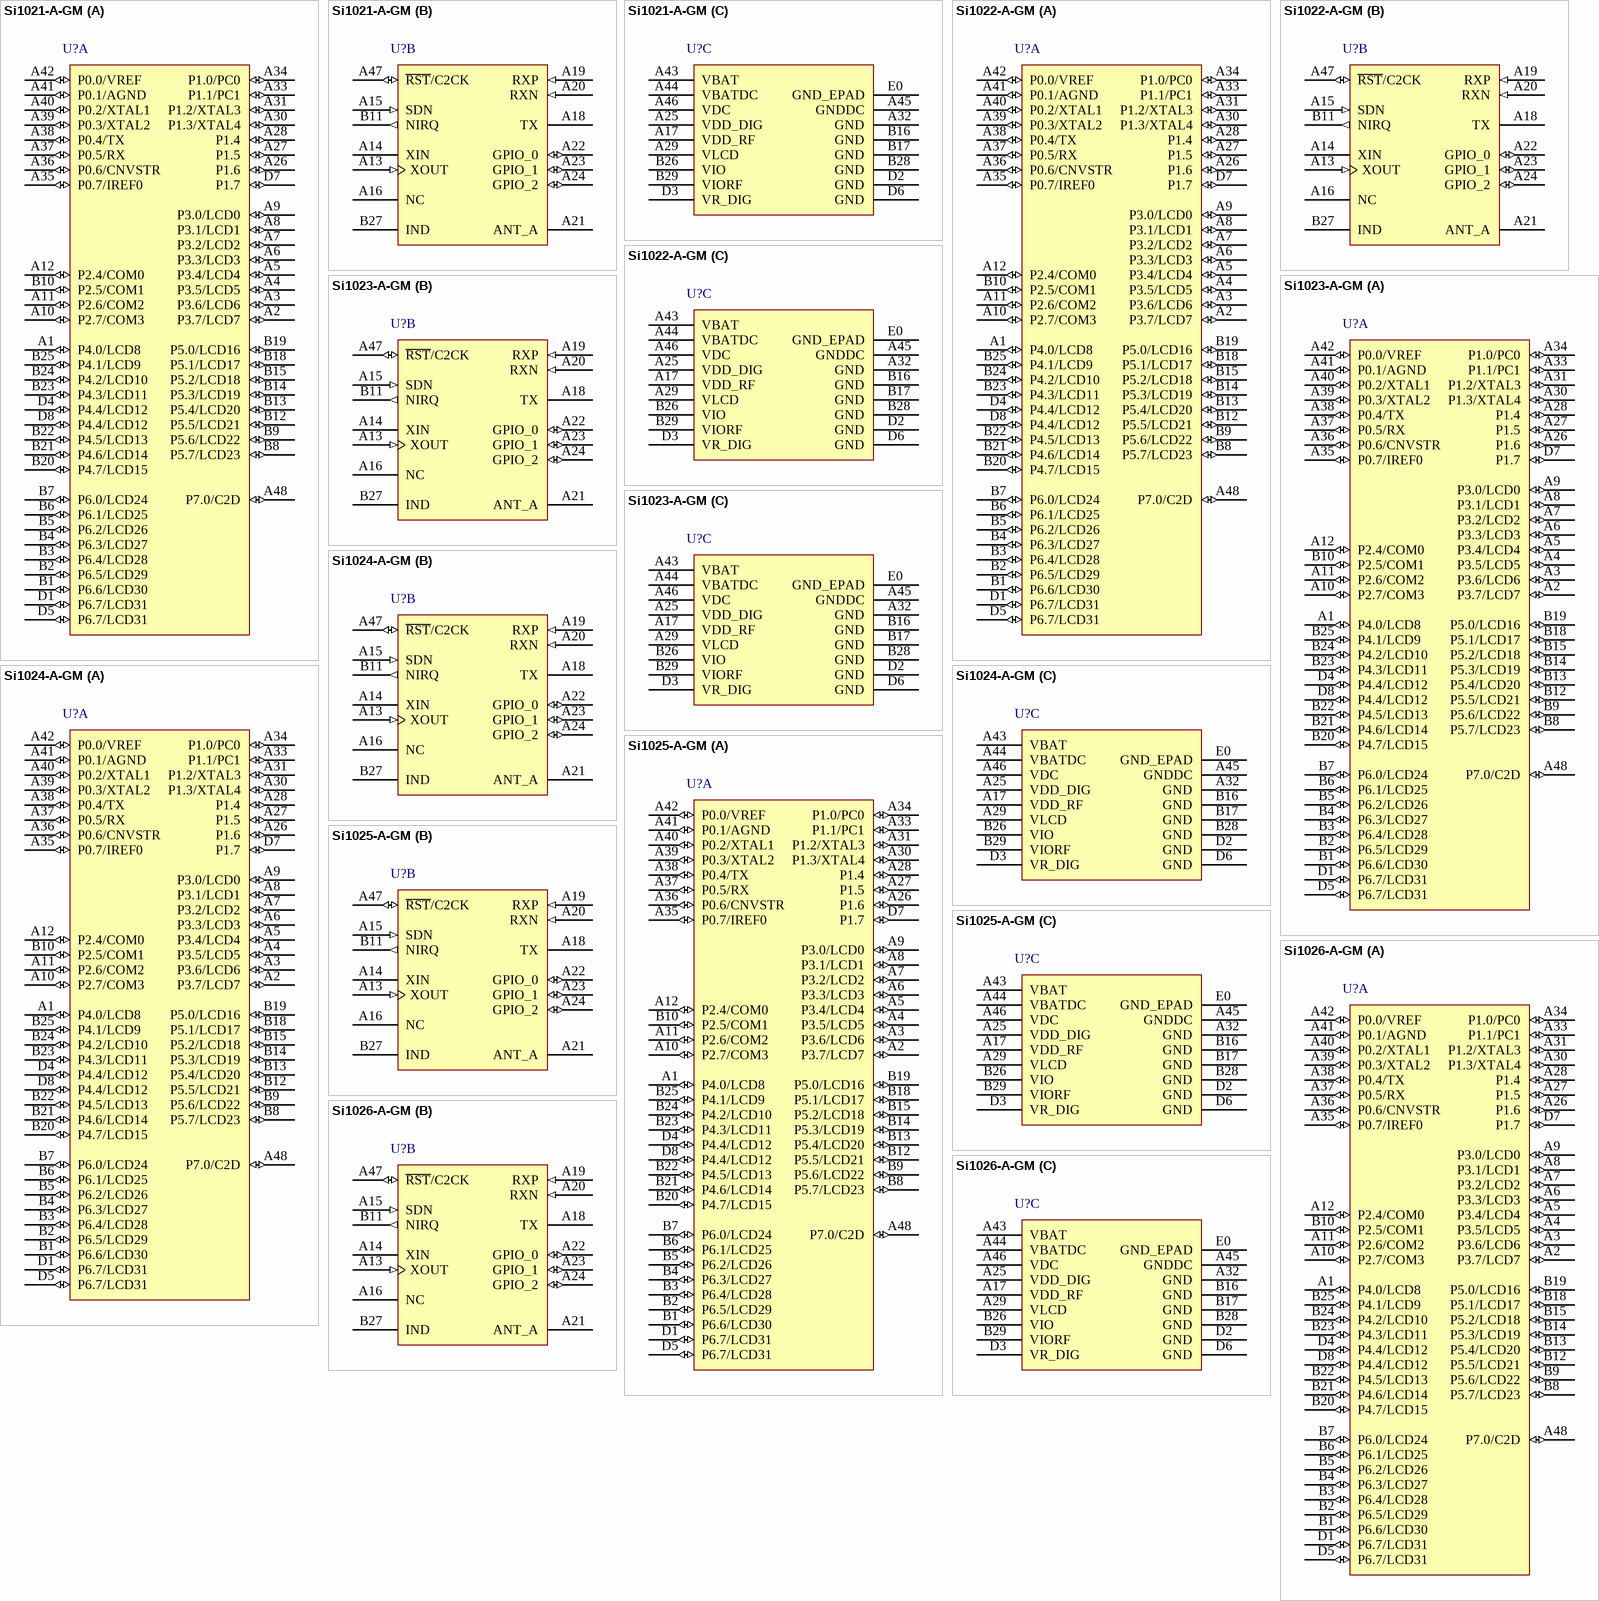
[diagram p2: symbols Si1021-A-GM to Si1026-A-GM]